# Altium schematic symbol library TLE6282G.SCHLIB: 1 symbol
Pins are listed as number, name and electrical type; pins without a type are passive.

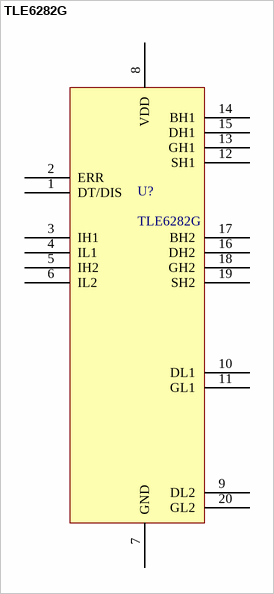
[diagram p0: symbol TLE6282G]

## TLE6282G
designator U?
pins: 1 DT/DIS, 2 ERR, 3 IH1, 4 IL1, 5 IH2, 6 IL2, 7 GND, 8 VDD, 9 DL2, 10 DL1, 11 GL1, 12 SH1, 13 GH1, 14 BH1, 15 DH1, 16 DH2, 17 BH2, 18 GH2, 19 SH2, 20 GL2